# Altium schematic symbol library Tantalum Capacitor.SchLib: 6 symbols
Pins are listed as number, name and electrical type; pins without a type are passive.

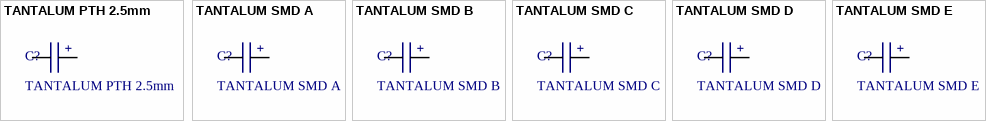
[diagram p0: symbols TANTALUM PTH 2.5mm to TANTALUM SMD E]

## TANTALUM PTH 2.5mm
designator C?
Generic Tantalum PTH 2.5m..
footprint TANTALUM PTH 2.5mm
pins: 1, 2
text: +

## TANTALUM SMD A
designator C?
Generic Tantalum Type A, 3.2x1.6x1.6.
footprint TANTALUM SMD A (SMD TIPO A 3.2x1.6x1.6)
pins: 1, 2
text: +

## TANTALUM SMD B
designator C?
Generic Tantalum Type B, 3.5x2.8x1.9.
footprint TANTALUM SMD B (SMD TIPO B 3.5x2.8x1.9)
pins: 1, 2
text: +

## TANTALUM SMD C
designator C?
Generic Tantalum Type C, 6.0x3.2x2.5.
footprint TANTALUM SMD C (SMD TIPO C 6.0x3.2x2.2)
pins: 1, 2
text: +

## TANTALUM SMD D
designator C?
Generic Tantalum Type D, 7.3x4.3x2.8.
footprint TANTALUM SMD D (SMD TIPO D 7.3x4.3x2.4)
pins: 1, 2
text: +

## TANTALUM SMD E
designator C?
Generic Tantalum Type E, 7.3x4.3x4.0.
footprint TANTALUM SMD E (SMD TIPO E  7.3x4.3x4.1)
pins: 1, 2
text: +